# EAGLE library part TDA7448 (library Audio-Power-amlifier V.2.0)
The TDA7448 is a 6 channel volume controller for quality audio applications in Multi-Channels Audio Systems
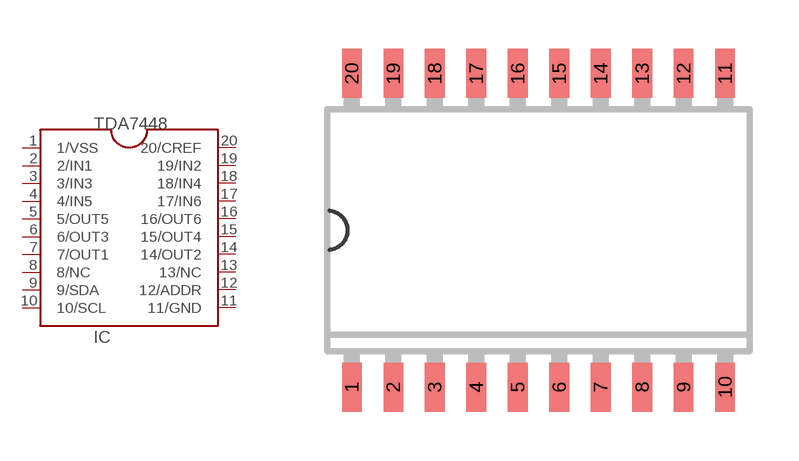
[diagram p256: symbol with the pads of SO20; footprint SO20]

Designator prefix IC

## TDA7448  [SO20]
1  1/VSS  pwr
2  2/IN1  in
3  3/IN3  in
4  4/IN5  in
5  5/OUT5  out
6  6/OUT3  out
7  7/OUT1  out
8  8/NC  nc
9  9/SDA
10  10/SCL
11  11/GND  pwr
12  12/ADDR
13  13/NC  nc
14  14/OUT2  out
15  15/OUT4  out
16  16/OUT6  out
17  17/IN6  in
18  18/IN4  in
19  19/IN2  in
20  20/CREF

## Footprint SO20 (pad centres in mm)
SO20 - Small Outline Package 7.6 x 13.0 mm
smd 0.6 x 1.5: 1 -5.715,-4.8; 2 -4.445,-4.8; 3 -3.175,-4.8; 4 -1.905,-4.8; 5 -0.635,-4.8; 6 0.635,-4.8; 7 1.905,-4.8; 8 3.175,-4.8; 9 4.445,-4.8; 10 5.715,-4.8; 11 5.715,4.8; 12 4.445,4.8; 13 3.175,4.8; 14 1.905,4.8; 15 0.635,4.8; 16 -0.635,4.8; 17 -1.905,4.8; 18 -3.175,4.8; 19 -4.445,4.8; 20 -5.715,4.8